# Altium schematic symbol library Connectors.SchLib: 2 symbols
Pins are listed as number, name and electrical type; pins without a type are passive.

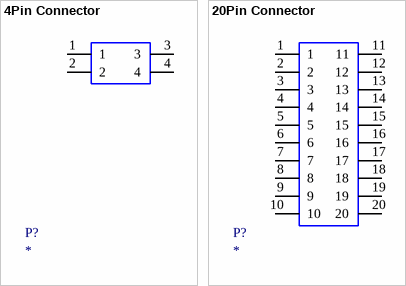
[diagram p0: symbols 4Pin Connector to 20Pin Connector]

## 4Pin Connector
designator P?
Connector Header Through Hole 4 position 0.118" (3.00mm) / 0430450413; Vendor: Molex; Manufacturer_Part_Number: 0430450413; Supplier Part Number: WM2649-ND; Type: 4Pin Connector
footprint 4Pin connector Molex (0430450413  Connector Header Through Hole 4 position 0.118" (3.00mm))
pins: 1, 2, 3, 4

## 20Pin Connector
designator P?
Connector Header Through Hole 20 position 0.118" (3.00mm) / 43045-2013; Vendor: Molex; Manufacturer_Part_Number: 43045-2013; Supplier Part Number: WM2657-ND; Type: 20Pin Connector
footprint 20Pin connector Molex (43045-2013 Connector Header Through Hole 20 position 0.118" (3.00mm))
pins: 1, 2, 3, 4, 5, 6, 7, 8, 9, 10, 11, 12, 13, 14, 15, 16, 17, 18, 19, 20